# Altium schematic symbol library analog_buffer.SchLib: 8 symbols
Pins are listed as number, name and electrical type; pins without a type are passive.

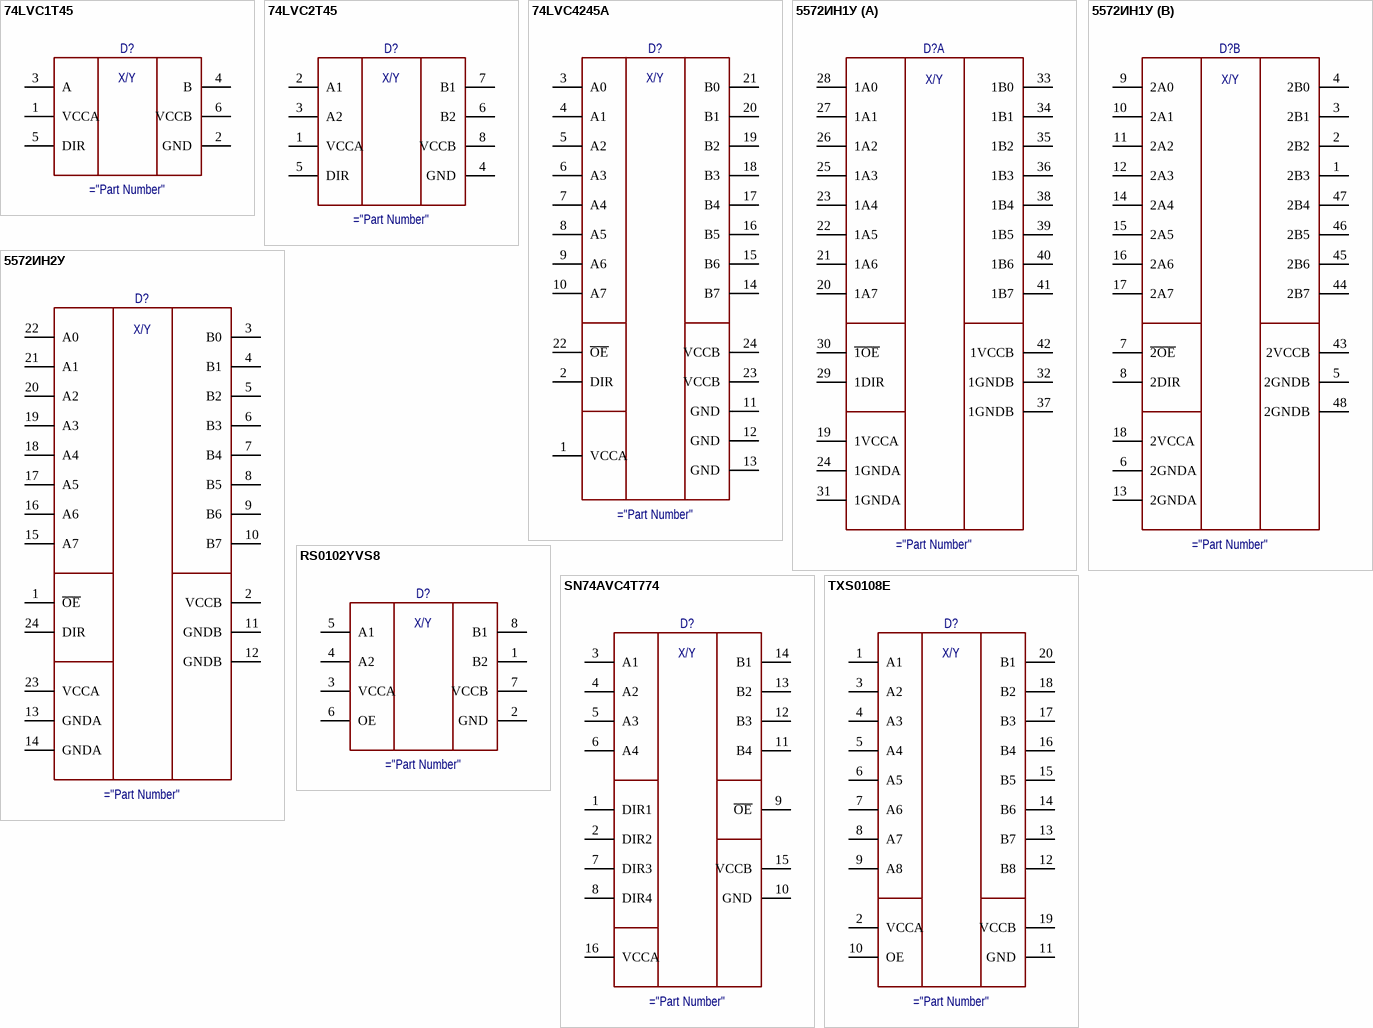
[diagram p0: symbols 74LVC1T45 to TXS0108E]

## 74LVC1T45
designator D?
Buffer 1-bit
pins: 1 VCCA, 2 GND, 3 A, 4 B, 5 DIR, 6 VCCB
text: X/Y

## 74LVC2T45
designator D?
Buffer 2-bit
pins: 1 VCCA, 2 A1, 3 A2, 4 GND, 5 DIR, 6 B2, 7 B1, 8 VCCB
text: X/Y

## 74LVC4245A
designator D?
Buffer 8-bit
pins: 1 VCCA, 2 DIR, 3 A0, 4 A1, 5 A2, 6 A3, 7 A4, 8 A5, 9 A6, 10 A7, 11 GND, 12 GND, 13 GND, 14 B7, 15 B6, 16 B5, 17 B4, 18 B3, 19 B2, 20 B1, 21 B0, 22 ~{OE}, 23 VCCB, 24 VCCB
text: X/Y

## 5572ИН1У
designator D?
Buffer 16-bit
part A pins: 19 1VCCA, 20 1A7, 21 1A6, 22 1A5, 23 1A4, 24 1GNDA, 25 1A3, 26 1A2, 27 1A1, 28 1A0, 29 1DIR, 30 ~{1OE}, 31 1GNDA, 32 1GNDB, 33 1B0, 34 1B1, 35 1B2, 36 1B3, 37 1GNDB, 38 1B4, 39 1B5, 40 1B6, 41 1B7, 42 1VCCB
part B pins: 1 2B3, 2 2B2, 3 2B1, 4 2B0, 5 2GNDB, 6 2GNDA, 7 ~{2OE}, 8 2DIR, 9 2A0, 10 2A1, 11 2A2, 12 2A3, 13 2GNDA, 14 2A4, 15 2A5, 16 2A6, 17 2A7, 18 2VCCA, 43 2VCCB, 44 2B7, 45 2B6, 46 2B5, 47 2B4, 48 2GNDB
part A text: X/Y
part B text: X/Y

## 5572ИН2У
designator D?
Buffer 8-bit
pins: 1 ~{OE}, 2 VCCB, 3 B0, 4 B1, 5 B2, 6 B3, 7 B4, 8 B5, 9 B6, 10 B7, 11 GNDB, 12 GNDB, 13 GNDA, 14 GNDA, 15 A7, 16 A6, 17 A5, 18 A4, 19 A3, 20 A2, 21 A1, 22 A0, 23 VCCA, 24 DIR
text: X/Y

## RS0102YVS8
designator D?
Buffer 2-bit
pins: 1 B2, 2 GND, 3 VCCA, 4 A2, 5 A1, 6 OE, 7 VCCB, 8 B1
text: X/Y

## SN74AVC4T774
designator D?
Buffer 4-bit BiDirectional / 380 Mb/s
pins: 1 DIR1, 2 DIR2, 3 A1, 4 A2, 5 A3, 6 A4, 7 DIR3, 8 DIR4, 9 ~{OE}, 10 GND, 11 B4, 12 B3, 13 B2, 14 B1, 15 VCCB, 16 VCCA
text: X/Y

## TXS0108E
designator D?
Buffer 8-bit BiDirectional
pins: 1 A1, 2 VCCA, 3 A2, 4 A3, 5 A4, 6 A5, 7 A6, 8 A7, 9 A8, 10 OE, 11 GND, 12 B8, 13 B7, 14 B6, 15 B5, 16 B4, 17 B3, 18 B2, 19 VCCB, 20 B1
text: X/Y